# Altium integrated library Infineon_Power_Motor_Driver.IntLib: 100 symbols (part 5 of 7)
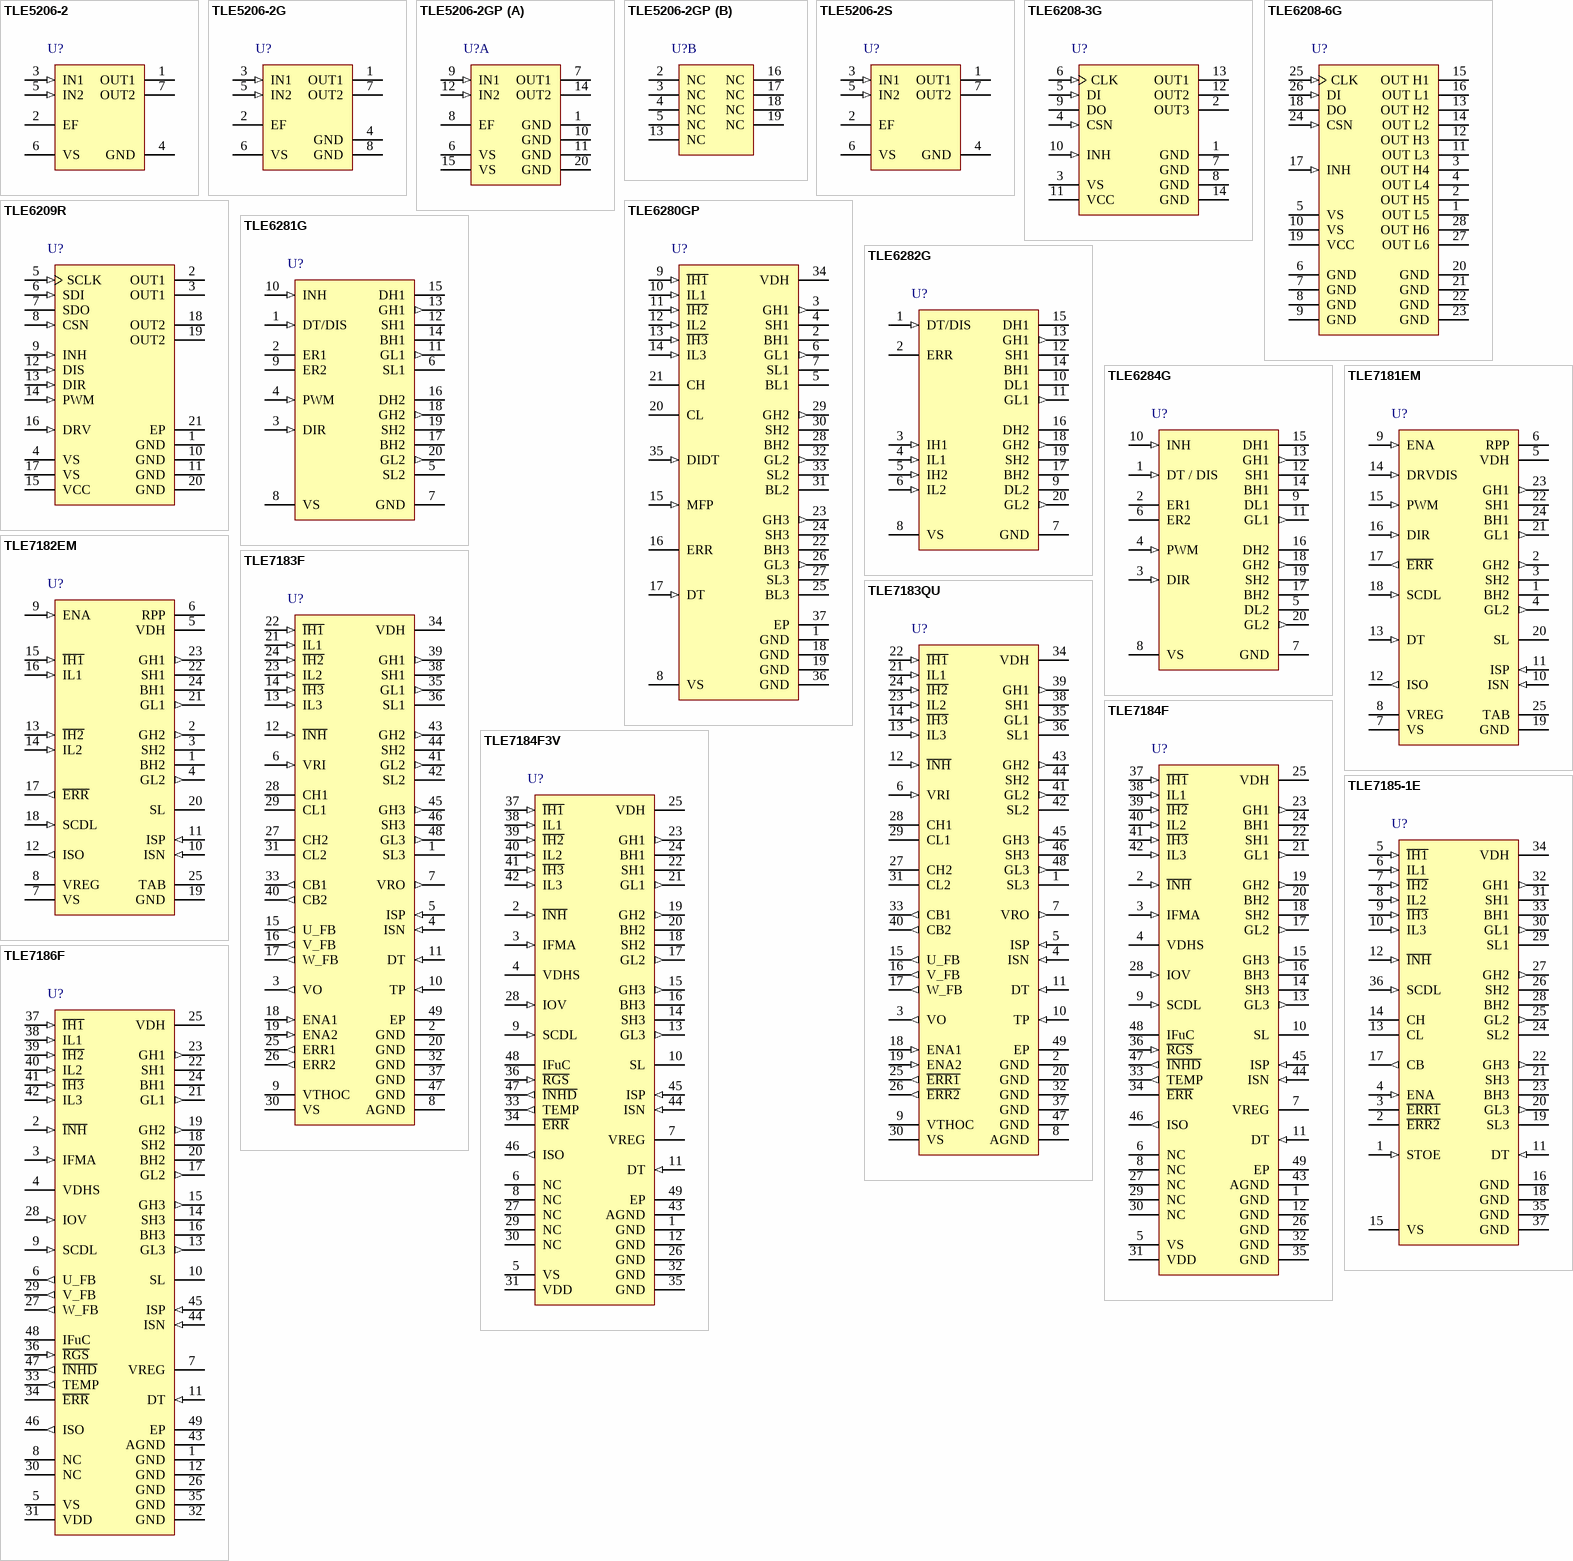
[diagram p8: symbols TLE5206-2 to TLE7186F]

## TLE6284G
designator U?
H-Bridge Driver IC, 7.5 to 60 V, 0.6 mA Iq, -40 to 150 degC, PG-DSO-20-1, Reel, Green; Manufacturer: Infineon; PartNumber: TLE6284G; Adjustable dead time: TRUE; D.C. Range: 0...96/ 100%; Diagnosis: UV, SCD, OT; Iq: 0.6 mA; Integrated OPAMPs for load current measurement: 0; Turn on/off Current: 0.85 / 0.85 A; DatasheetVersion: Rev. 2.4; PackageVersion: Rev. 2.4, 03/2008; PackageReference: PG-DSO-20-1; PackageDescription: 20-Pin Plastic (Green) Dual Small Outline Package, Body 12.8 x 7.6 mm, Pitch 1.27 mm; Supplier 1: Mouser; Supplier Part Number 1: 726-TLE6284G; Supplier 2: Digi-Key; Supplier Part Number 2: TLE6284GTR-ND; Supplier 3: Digi-Key; Supplier Part Number 3: TLE6284GCT-ND; Supplier 4: Digi-Key; Supplier Part Number 4: TLE6284GDKR-ND; Adjustable short circuit detection: TRUE; Green: TRUE; Halogen-free: TRUE; Operating Range: 7.5 to 60 V; Packing: Reel; PWM-DIR Interface: TRUE; Mounting Technology: Surface Mount; Code_JEDEC: J-STD-020; ComponentLink1Description: Manufacturer URL; ComponentLink1URL: http://www.infineon.com/; ComponentLink2Description: Datasheet; ComponentLink2URL: http://www.infineon.com/dgdl/TLE6284G_Rev+2+4.pdf?folderId=db3a3043156fd5730116144c5d101c30&fileId=db3a30431d8a6b3c011d95c820680847&sId=db3a30433e0d3017013e14495be80e67; ComponentLink3Description: Package Specification; ComponentLink3URL: http://www.infineon.com/dgdl/TLE6282G_DS_Rev+2+4.pdf?folderId=db3a3043156fd5730116144c5d101c30&fileId=db3a30431d8a6b3c011d95bcd43d0837&sId=db3a30443e0c87a1013e13f9ac601d73
footprint INF-PG-DSO-20-1_N (SOP, 20-Leads, Body 12.8x7.6mm, Pitch 1.27mm, IPC Medium Density)
footprint INF-PG-DSO-20-1_L (SOP, 20-Leads, Body 12.8x7.6mm, Pitch 1.27mm, IPC High Density)
footprint INF-PG-DSO-20-1_M (SOP, 20-Leads, Body 12.8x7.6mm, Pitch 1.27mm, IPC Low Density)
pins: 1 DT / DIS (in) "a) Set adjustable dead time by external resistor. b) Reset ERx register. c) Disable output stages", 2 ER1 (oc) "Error flag for driver shut down", 3 DIR (in) "Control input for spinning direction of the motor", 4 PWM (in) "Control input for PWM frequency and duty cycle", 5 DL2 (power) "Sense contact for short circuit detection low side 2", 6 ER2 (oc) "Warning flag Temperature / distinguish if short circuit or undervoltage lock out occured", 7 GND (power) "Logic Ground", 8 VS (power) "Voltage supply", 9 DL1 (power) "Sense contact for short circuit detection low side 1", 10 INH (in) "Sets complete device to sleep mode to achieve low quiescent currents", 11 GL1 (out) "Output to gate low side switch 1", 12 SH1 (power) "Connection to source high side switch 1", 13 GH1 (out) "Output to gate high side switch 1", 14 BH1 (power) "Bootstrap supply high side switch 1", 15 DH1 (power) "Sense contact for short circuit detection high side 1", 16 DH2 (power) "Sense contact for short circuit detection high side 2", 17 BH2 (power) "Bootstrap supply high side switch 2", 18 GH2 (out) "Output to gate high side switch 2", 19 SH2 (power) "Connection to source high side switch 2", 20 GL2 (out) "Output to gate low side switch 2"

## TLE7181EM
designator U?
H-Bridge and Dual Half Bridge Driver IC, 7 to 34 V, 20 uA Iq, -40 to 150 degC, PG-SSOP-24-4, Reel, Green; Manufacturer: Infineon; PartNumber: TLE7181EM; Adjustable dead time: 0.13 … 3.6 us; Adjustable short circuit detection: 0.2 … 2 V; D.C. Range: 0…95/ 100%; Diagnosis: UV, OV, SCD, OC, OT; Green: TRUE; Iq: 20 uA; Integrated OPAMPs for load current measurement: 1; Operating Range: 7 to 34 V; PWM-DIR Interface: PWM - DIR; Turn on/off Current: 0.35 / 0.35 A; DatasheetVersion: Rev. 1.1; PackageVersion: Oct-12; PackageReference: PG-SSOP-24-4; PackageDescription: 24-Pin Plastic (Green) Shrink Small Outline Package, 8.65 x 3.9 mm Body, 0.65 mm Pitch; Supplier 1: Mouser; Supplier Part Number 1: 726-TLE7181EM; Supplier 2: Digi-Key; Supplier Part Number 2: TLE7181EM-ND; Halogen-free: TRUE; Packing: Reel; Mounting Technology: Surface Mount; ComponentLink1Description: Manufacturer URL; ComponentLink1URL: http://www.infineon.com/; ComponentLink2Description: Datasheet; ComponentLink2URL: http://www.infineon.com/dgdl/TLE7181EM_DS_Rev1.1.pdf?folderId=db3a3043156fd5730116144c5d101c30&fileId=db3a30432f5008fe012f5440330e3991&location=en.Products.Automotive_ICs.Motor_Drivers__Automotive_.Gate_Driver_ICs_for_external_MOSFETs.H-Bridge_and_Half_Bridge_driver_IC.DATASHEET.TLE7181EM_DS_Rev1.1.pdf; ComponentLink3Description: Package Specification; ComponentLink3URL: http://www.infineon.com/dgdl/TLE8088EM_DS_10.pdf?folderId=db3a30431b3e89eb011bb632994f065b&fileId=db3a30433a047ba0013a446e76be0bbb&location=en.Products.Automotive_ICs.Powertrain_ICs.Power_Interface_Products_for_Motorcycle_and_Small_Engines.DATASHEET.TLE8088EM_DS_10.pdf
footprint INF-PG-SSOP-24-4_N (SOP, 24-Leads, Body 8.65x3.9mm, Pitch 0.65mm, Thermal Pad 6.65x2.9mm, IPC Medium Density)
footprint INF-PG-SSOP-24-4_L (SOP, 24-Leads, Body 8.65x3.9mm, Pitch 0.65mm, Thermal Pad 6.65x2.9mm, IPC High Density)
footprint INF-PG-SSOP-24-4_M (SOP, 24-Leads, Body 8.65x3.9mm, Pitch 0.65mm, Thermal Pad 6.65x2.9mm, IPC Low Density)
pins: 1 BH2 (power) "Pin for + terminal of the bootstrap capacitor of phase 2", 2 GH2 (out) "Output pin for gate of high side MOSFET 2", 3 SH2 (power) "Pin for source connection of high side MOSFET 2", 4 GL2 (out) "Output pin for gate of low side MOSFET 2", 5 VDH (power) "Voltage input common drain high side for short circuit detection", 6 RPP (power) "charge pump output for reverse polarity protection of the motor bridge", 7 VS (power) "Pin for supply voltage", 8 VREG (power) "Output of supply for driver output stage - connect to a capacitor", 9 ENA (in) "Input pin for reset of E\R\R\ registers, active switch off of external MOSFETs and low quiescent current mode, set HIGH to enable operation", 10 ISN (in) "Input for OPAMP + terminal", 11 ISP (in) "Input for OPAMP - terminal", 12 ISO (out) "Output of OPAMP", 13 DT (in) "Input for adjustable dead time function, connect to GND via resistor", 14 DRVDIS (in) "Disable DIR/PWM interface & all output stages switched off", 15 PWM (in) "control input for PWM frequency and duty cycle", 16 DIR (in) "control input for spinning direction of the motor", 17 ~{ERR} (out) "Push pull output stage", 18 SCDL (in) "Input pin for adjustable Short Circuit Detection function", 19 GND (power) "Ground pin", 20 SL (power) "Pin for common source of lowside MOSFETs", 21 GL1 (out) "Output pin for gate of low side MOSFET 1", 22 SH1 (power) "Pin for source connection of high side MOSFET 1", 23 GH1 (out) "Output pin for gate of high side MOSFET 1", 24 BH1 (power) "Pin for + terminal of the bootstrap capacitor of phase 1", 25 TAB (power) "should be connected to GND"

## TLE7182EM
designator U?
H-Bridge and Dual Half Bridge Driver IC, 7 to 34 V, 20 uA Iq, -40 to 150 degC, PG-SSOP-24-4, Reel, Green; Manufacturer: Infineon; PartNumber: TLE7182EM; Adjustable dead time: No, 0.13 us; Adjustable short circuit detection: 0.2 … 2 V; D.C. Range: 0…95/ 100%; Diagnosis: UV, OV, SCD, OC, OT; Green: TRUE; Iq: 20 uA; Integrated OPAMPs for load current measurement: 1; Operating Range: 7 to 34 V; PWM-DIR Interface: 4x input; Turn on/off Current: 0.35 / 0.35 A; DatasheetVersion: Rev. 1.1; PackageVersion: Oct-12; PackageReference: PG-SSOP-24-4; PackageDescription: 24-Pin Plastic (Green) Shrink Small Outline Package, 8.65 x 3.9 mm Body, 0.65 mm Pitch; Supplier 1: Mouser; Supplier Part Number 1: 726-TLE7182EM; Supplier 2: Digi-Key; Supplier Part Number 2: TLE7182EM-ND; Halogen-free: TRUE; Packing: Reel; Mounting Technology: Surface Mount; ComponentLink1Description: Manufacturer URL; ComponentLink1URL: http://www.infineon.com/; ComponentLink2Description: Datasheet; ComponentLink2URL: http://www.infineon.com/dgdl/TLE7182EM_DS_Rev1.1.pdf?folderId=db3a3043156fd5730116144c5d101c30&fileId=db3a30432f5008fe012f5442920c3996&location=en.Products.Automotive_ICs.Motor_Drivers__Automotive_.Gate_Driver_ICs_for_external_MOSFETs.H-Bridge_and_Half_Bridge_driver_IC.DATASHEET.TLE7182EM_DS_Rev1.1.pdf; ComponentLink3Description: Package Specification; ComponentLink3URL: http://www.infineon.com/dgdl/TLE8088EM_DS_10.pdf?folderId=db3a30431b3e89eb011bb632994f065b&fileId=db3a30433a047ba0013a446e76be0bbb&location=en.Products.Automotive_ICs.Powertrain_ICs.Power_Interface_Products_for_Motorcycle_and_Small_Engines.DATASHEET.TLE8088EM_DS_10.pdf
footprint INF-PG-SSOP-24-4_N (SOP, 24-Leads, Body 8.65x3.9mm, Pitch 0.65mm, Thermal Pad 6.65x2.9mm, IPC Medium Density)
footprint INF-PG-SSOP-24-4_L (SOP, 24-Leads, Body 8.65x3.9mm, Pitch 0.65mm, Thermal Pad 6.65x2.9mm, IPC High Density)
footprint INF-PG-SSOP-24-4_M (SOP, 24-Leads, Body 8.65x3.9mm, Pitch 0.65mm, Thermal Pad 6.65x2.9mm, IPC Low Density)
pins: 1 BH2 (power) "Pin for + terminal of the bootstrap capacitor of phase 2", 2 GH2 (out) "Output pin for gate of high side MOSFET 2", 3 SH2 (power) "Pin for source connection of high side MOSFET 2", 4 GL2 (out) "Output pin for gate of low side MOSFET 2", 5 VDH (power) "Voltage input common drain high side for short circuit detection", 6 RPP (power) "charge pump output for reverse polarity protection of the motor bridge", 7 VS (power) "Pin for supply voltage", 8 VREG (power) "Output of supply for driver output stage - connect to a capacitor", 9 ENA (in) "Input pin for reset of E\R\R\ registers, active switch off of external MOSFETs and low quiescent current mode, set HIGH to enable operation", 10 ISN (in) "Input for OPAMP + terminal", 11 ISP (in) "Input for OPAMP - terminal", 12 ISO (out) "Output of OPAMP", 13 ~{IH2} (in) "Input for high side switch 2 (active low)", 14 IL2 (in) "Input for low side switch 2 (active high)", 15 ~{IH1} (in) "Input for high side switch 1 (active low)", 16 IL1 (in) "Input for low side switch 1 (active high)", 17 ~{ERR} (out) "Push pull output stage", 18 SCDL (in) "Input pin for adjustable Short Circuit Detection function", 19 GND (power) "Ground pin", 20 SL (power) "Pin for common source of lowside MOSFETs", 21 GL1 (out) "Output pin for gate of low side MOSFET 1", 22 SH1 (power) "Pin for source connection of high side MOSFET 1", 23 GH1 (out) "Output pin for gate of high side MOSFET 1", 24 BH1 (power) "Pin for + terminal of the bootstrap capacitor of phase 1", 25 TAB (power) "should be connected to GND"

## TLE7183F
designator U?
3-Phase Bridge Driver IC, 5.5 to 28 V, 30 uA Iq, -40 to 150 degC, PG-VQFN-48-14, Reel, Green; Manufacturer: Infineon; PartNumber: TLE7183F; Adjustable dead time: TRUE; Adjustable short circuit detection: 5 fixed options; D.C. Range @ 20kHz: 0...100%; Diagnosis: OT, UV, OV, OC, OCD; Iq: 30 uA; Integrated OPAMPs for load current measurement: 1; Turn on/off Current: 1.5 / 1.5 A; DatasheetVersion: Rev. 2.1; PackageVersion: Rev. 2.1, 06/2007; PackageReference: PG-VQFN-48-14; PackageDescription: 48-Pin Plastic (Green) Very Thin Profile Quad Flat Non Leaded Package, Body 9 x 9 mm, Pitch 0.65 mm; Supplier 1: Mouser; Supplier Part Number 1: 726-TLE7183F; Supplier 2: Digi-Key; Supplier Part Number 2: TLE7183FTR-ND; Supplier 3: Digi-Key; Supplier Part Number 3: TLE7183FCT-ND; Supplier 4: Digi-Key; Supplier Part Number 4: TLE7183FDKR-ND; Green: TRUE; Halogen-free: TRUE; Operating Range: 5.5 to 28 V; Packing: Reel; Phase voltage feedback: TRUE; Mounting Technology: Surface Mount; Code_JEDEC: J-STD-020; ComponentLink1Description: Manufacturer URL; ComponentLink1URL: http://www.infineon.com/; ComponentLink2Description: Datasheet; ComponentLink2URL: http://www.infineon.com/dgdl/TLE7183F_DS_V21.pdf?folderId=db3a304412b407950112b408e8c90004&fileId=db3a304412b407950112b43971646df4&location=en.Products.Automotive_ICs.Motor_Drivers__Automotive_.Gate_Driver_ICs_for_external_MOSFETs.3-Phase_Bridge_Driver_IC_.DATASHEET.TLE7183F_DS_V21.pdf; ComponentLink3Description: Package Specification; ComponentLink3URL: http://www.infineon.com/dgdl/TLE7188F_DS_21.pdf?folderId=db3a3043156fd5730116144c5d101c30&fileId=db3a304318f3fe290118f4acdb840008&sId=db3a30443e0c87a1013e140d16031d8d
footprint INF-PG-VQFN-48-14_N (QFN, 48-Leads, Body 9x9mm, Pitch 0.65mm, Thermal Pad 6.8x6.8mm, IPC Medium Density)
footprint INF-PG-VQFN-48-14_L (QFN, 48-Leads, Body 9x9mm, Pitch 0.65mm, Thermal Pad 6.8x6.8mm, IPC High Density)
footprint INF-PG-VQFN-48-14_M (QFN, 48-Leads, Body 9x9mm, Pitch 0.65mm, Thermal Pad 6.8x6.8mm, IPC Low Density)
pins: 1 SL3 (power) "Connection to source low side switch 3", 2 GND (power) "Logic and power ground", 3 VO (out) "Output of OpAmp for shunt signal amplification", 4 ISN (in) "- Input of OpAmp for shunt signal amplification", 5 ISP (in) "+ Input of OpAmp for shunt signal amplification", 6 VRI (in) "Input of bias reference amplifier", 7 VRO (out) "Output of bias reference amplifier", 8 AGND (power) "Analog ground especially for the current sense OpAmp", 9 VTHOC (power) "Threshold voltage for overcurrent detection", 10 TP (in) "test pin, connect to GND of driver IC", 11 DT (in) "Dead time program pin", 12 ~{INH} (in) "Inhibit pin (active low)", 13 IL3 (in) "Input for low side switch 3 (active high)", 14 ~{IH3} (in) "Input for high side switch 3 (active low)", 15 U_FB (out) "Digital logic representation of the voltage phase U; positive logic", 16 V_FB (out) "Digital logic representation of the voltage phase V; positive logic", 17 W_FB (out) "Digital logic representation of the voltage phase W; positive logic", 18 ENA1 (in) "Enable pin (active high)", 19 ENA2 (in) "Enable pin (active high)", 20 GND (power) "Logic and power ground", 21 IL1 (in) "Input for low side switch 1 (active high)", 22 ~{IH1} (in) "Input for high side switch 1 (active low)", 23 IL2 (in) "Input for low side switch 2 (active high)", 24 ~{IH2} (in) "Input for high side switch 2 (active low)", 25 ERR1 (out) "Error signal 1", 26 ERR2 (out) "Error signal 2", 27 CH2 "+ terminal for pump capacitor of charge pump 2", 28 CH1 "+ terminal for pump capacitor of charge pump 1", 29 CL1 "- terminal for pump capacitor of charge pump 1", 30 VS (power) "Voltage supply", 31 CL2 "- terminal for pump capacitor of charge pump 2", 32 GND (power) "Logic and power ground", 33 CB1 (out) "Buffer capacitor for charge pump 1", 34 VDH (power) "Connection to drain of high side switches for short circuit detection", 35 GL1 (out) "Output to gate low side switch 1", 36 SL1 (power) "Connection to source low side switch 1", 37 GND (power) "Logic and power ground", 38 SH1 (power) "Connection to source high side switch 1", 39 GH1 (out) "Output to gate high side switch 1", 40 CB2 (out) "Buffer capacitor for charge pump 2", 41 GL2 (out) "Output to gate low side switch 2", 42 SL2 (power) "Connection to source low side switch 2", 43 GH2 (out) "Output to gate high side switch 2", 44 SH2 (power) "Connection to source high side switch 2", 45 GH3 (out) "Output to gate high side switch 3", 46 SH3 (power) "Connection to source high side switch 3", 47 GND (power) "Logic and power ground", 48 GL3 (out) "Output to gate low side switch 3", 49 EP (power)

## TLE7183QU
designator U?
3 Phase Driver IC, 5.5 to 28 V, 30 uA Iq, -40 to 150 degC, PG-TQFP-48-8, Reel, Green; Manufacturer: Infineon; PartNumber: TLE7183QU; Adjustable dead time: TRUE; Adjustable short circuit detection: 5 fixed options; D.C. Range @ 20kHz: 0...100%; Diagnosis: OT, UV, OV, OC, OCD; Iq: 30 uA; Integrated OPAMPs for load current measurement: 1; Turn on/off Current: 1.5 / 1.5 A; DatasheetVersion: Rev. 1.0; PackageVersion: Rev. 1.0, 09/2011; PackageReference: PG-TQFP-48-8; PackageDescription: 48-Pin Plastic (Green) Thin Quad Flat Package, Body 7 x 7 mm, Pitch 0.5 mm; Green: TRUE; Halogen-free: TRUE; Operating Range: 5.5 to 28 V; Packing: Reel; Phase voltage feedback: TRUE; Mounting Technology: Surface Mount; Code_JEDEC: J-STD-020; ComponentLink1Description: Manufacturer URL; ComponentLink1URL: http://www.infineon.com/; ComponentLink2Description: Datasheet; ComponentLink2URL: http://www.infineon.com/dgdl/TLE7183QU_DS_10.pdf?folderId=db3a30431ff98815012060aedcd46179&fileId=db3a304334bc9e690134c2a52cac30cd&location=en.Products.Automotive_ICs.Motor_Drivers__Automotive_.Gate_Driver_ICs_for_external_MOSFETs.3-Phase_Bridge_Driver_IC_.DATASHEET.TLE7183QU_DS_10.pdf; ComponentLink3Description: Package Specification; ComponentLink3URL: http://www.infineon.com/dgdl/TLE7183QU_DS_10.pdf?folderId=db3a30431ff98815012060aedcd46179&fileId=db3a304334bc9e690134c2a52cac30cd&sId=db3a30433e0d3017013e126a03060bf1
footprint INF-PG-TQFP-48-8_N (QFP, 48-Leads, Body 7x7 mm, Pitch 0.5 mm, Thermal Pad 5x5 mm, IPC Medium Density)
footprint INF-PG-TQFP-48-8_L (QFP, 48-Leads, Body 7x7 mm, Pitch 0.5 mm, Thermal Pad 5x5 mm, IPC High Density)
footprint INF-PG-TQFP-48-8_M (QFP, 48-Leads, Body 7x7 mm, Pitch 0.5 mm, Thermal Pad 5x5 mm, IPC Low Density)
pins: 1 SL3 (power) "Connection to source low side switch 3", 2 GND (power) "Logic and power ground", 3 VO (out) "Output of OpAmp for shunt signal amplification", 4 ISN (in) "- Input of OpAmp for shunt signal amplification", 5 ISP (in) "+ Input of OpAmp for shunt signal amplification", 6 VRI (in) "Input of bias reference amplifier", 7 VRO (out) "Output of bias reference amplifier", 8 AGND (power) "Analog ground especially for the current sense OpAmp", 9 VTHOC (power) "Threshold voltage for overcurrent detection", 10 TP (in) "test pin, connect to GND of driver IC", 11 DT (in) "Dead time program pin", 12 ~{INH} (in) "Inhibit pin (active low)", 13 IL3 (in) "Input for low side switch 3 (active high)", 14 ~{IH3} (in) "Input for high side switch 3 (active low)", 15 U_FB (out) "Digital logic representation of the voltage phase U; positive logic", 16 V_FB (out) "Digital logic representation of the voltage phase V; positive logic", 17 W_FB (out) "Digital logic representation of the voltage phase W; positive logic", 18 ENA1 (in) "Enable pin (active high)", 19 ENA2 (in) "Enable pin (active high)", 20 GND (power) "Logic and power ground", 21 IL1 (in) "Input for low side switch 1 (active high)", 22 ~{IH1} (in) "Input for high side switch 1 (active low)", 23 IL2 (in) "Input for low side switch 2 (active high)", 24 ~{IH2} (in) "Input for high side switch 2 (active low)", 25 ~{ERR1} (out) "Error signal 1", 26 ~{ERR2} (out) "Error signal 2", 27 CH2 "+ terminal for pump capacitor of charge pump 2", 28 CH1 "+ terminal for pump capacitor of charge pump 1", 29 CL1 "- terminal for pump capacitor of charge pump 1", 30 VS (power) "Voltage supply", 31 CL2 "- terminal for pump capacitor of charge pump 2", 32 GND (power) "Logic and power ground", 33 CB1 (out) "Buffer capacitor for charge pump 1", 34 VDH (power) "Connection to drain of high side switches for short circuit detection", 35 GL1 (out) "Output to gate low side switch 1", 36 SL1 (power) "Connection to source low side switch 1", 37 GND (power) "Logic and power ground", 38 SH1 (power) "Connection to source high side switch 1", 39 GH1 (out) "Output to gate high side switch 1", 40 CB2 (out) "Buffer capacitor for charge pump 2", 41 GL2 (out) "Output to gate low side switch 2", 42 SL2 (power) "Connection to source low side switch 2", 43 GH2 (out) "Output to gate high side switch 2", 44 SH2 (power) "Connection to source high side switch 2", 45 GH3 (out) "Output to gate high side switch 3", 46 SH3 (power) "Connection to source high side switch 3", 47 GND (power) "Logic and power ground", 48 GL3 (out) "Output to gate low side switch 3", 49 EP (power)

## TLE7184F
designator U?
System IC for B6 motor drives, 7 to 32 V, 50 uA Iq, -40 to 150 degC, PG-VQFN-48-14, Reel, Green; Manufacturer: Infineon; PartNumber: TLE7184F; Adjustable dead time: TRUE; D.C. Range @ 20kHz: 0...95%; Diagnosis: UV, OV, OC, SCD, OT, VDD supervision; Iq: 50 uA; Integrated OPAMPs for load current measurement: 1; Operating Range: 7 to 32 V; DatasheetVersion: Rev. 1.0; PackageVersion: Rev. 2.1, 06/2007; PackageReference: PG-VQFN-48-14; PackageDescription: 48-Pin Plastic (Green) Very Thin Profile Quad Flat Non Leaded Package, Body 9 x 9 mm, Pitch 0.65 mm; Supplier 1: Mouser; Supplier Part Number 1: 726-TLE7184F; Supplier 2: Digi-Key; Supplier Part Number 2: TLE7184F-ND; Adjustable short circuit detection: TRUE; Green: TRUE; Halogen-free: TRUE; Packing: Reel; Mounting Technology: Surface Mount; Code_JEDEC: J-STD-020; ComponentLink1Description: Manufacturer URL; ComponentLink1URL: http://www.infineon.com/; ComponentLink2Description: Datasheet; ComponentLink2URL: http://www.infineon.com/dgdl/TLE7184F-FDS-V10.pdf?folderId=db3a3043156fd5730116144c5d101c30&fileId=db3a30431ed1d7b2011ee035c2f23e81&location=en.Products.Automotive_ICs.Motor_Drivers__Automotive_.Gate_Driver_ICs_for_external_MOSFETs.3-Phase_Bridge_Driver_IC_.DATASHEET.TLE7184F-FDS-V10.pdf; ComponentLink3Description: Package Specification; ComponentLink3URL: http://www.infineon.com/dgdl/TLE7188F_DS_21.pdf?folderId=db3a3043156fd5730116144c5d101c30&fileId=db3a304318f3fe290118f4acdb840008&sId=db3a30443e0c87a1013e140d16031d8d
footprint INF-PG-VQFN-48-14_N (QFN, 48-Leads, Body 9x9mm, Pitch 0.65mm, Thermal Pad 6.8x6.8mm, IPC Medium Density)
footprint INF-PG-VQFN-48-14_L (QFN, 48-Leads, Body 9x9mm, Pitch 0.65mm, Thermal Pad 6.8x6.8mm, IPC High Density)
footprint INF-PG-VQFN-48-14_M (QFN, 48-Leads, Body 9x9mm, Pitch 0.65mm, Thermal Pad 6.8x6.8mm, IPC Low Density)
pins: 1 GND (power) "Ground pin", 2 ~{INH} (in) "Input pin wake up the complete system IC", 3 IFMA (in) "Interface to master ECU (used for wake up)", 4 VDHS (power) "Switched output of VDH voltage; switch open in sleep mode", 5 VS (power) "Supply Pin", 6 NC "connect to GND", 7 VREG (power) "Output of supply for driver output stages - connect to capacitor", 8 NC "connect to GND", 9 SCDL (in) "Analog input pin for adjustable Short Circuit Detection function, connect to voltage divider", 10 SL (power) "Pin for common source connection of low side MOSFETs", 11 DT (in) "Input pin for adjustable dead time function, connect to GND via resistor", 12 GND (power) "Ground pin", 13 GL3 (out) "Output pin for gate of low side MOSFET 3", 14 SH3 (power) "Pin for source connection of high side MOSFET 3", 15 GH3 (out) "Output pin for gate of high side MOSFET 3", 16 BH3 (power) "Pin for + terminal of the bootstrap capacitor of phase 3", 17 GL2 (out) "Output pin for gate of low side MOSFET 2", 18 SH2 (power) "Pin for source connection of high side MOSFET 2", 19 GH2 (out) "Output pin for gate of high side MOSFET 2", 20 BH2 (power) "Pin for + terminal of the bootstrap capacitor of phase 2", 21 GL1 (out) "Output pin for gate of low side MOSFET 1", 22 SH1 (power) "Pin for source connection of high side MOSFET 1", 23 GH1 (out) "Output pin for gate of high side MOSFET 1", 24 BH1 (power) "Pin for + terminal of the bootstrap capacitor of phase 1", 25 VDH (power) "Voltage input common drain high side for short circuit detection", 26 GND (power) "Ground pin", 27 NC "connect to GND", 28 IOV (in) "Input pin for Over Voltage detection", 29 NC "connect to GND", 30 NC "connect to GND", 31 VDD (power) "Output of 5V supply for uC - connect to capacitor", 32 GND (power) "Ground pin", 33 TEMP (out) "Output pin for analog temperature signal", 34 ~{ERR} (oc) "Open drain error output", 35 GND (power) "Ground pin", 36 ~{RGS} (in) "Reset and Go-to-Sleep input pin for reset of error registers, set HIGH to avoid to goto-sleep", 37 ~{IH1} (in) "Input for high side switch 1 (active low)", 38 IL1 (in) "Input for low side switch 1 (active high)", 39 ~{IH2} (in) "Input for high side switch 2 (active low)", 40 IL2 (in) "Input for low side switch 2 (active high)", 41 ~{IH3} (in) "Input for high side switch 3 (active low)", 42 IL3 (in) "Input for low side switch 3 (active high)", 43 AGND (power) "Analog GND for Opamp and analog temperature output", 44 ISN (in) "Input for OpAmp - terminal", 45 ISP (in) "Input for OpAmp + terminal", 46 ISO (out) "Output of OpAmp", 47 ~{INHD} (out) "Digital output 5V for INH state (high when INH is high)", 48 IFuC (oc) "Interface to uC", 49 EP (power) "Exposed pad to be connected to GND"

## TLE7184F3V
designator U?
System IC for B6 motor drives, 7 to 32 V, 50 uA Iq, -40 to 150 degC, PG-VQFN-48-14, Reel, Green; Manufacturer: Infineon; PartNumber: TLE7184F3V; Adjustable dead time: TRUE; D.C. Range @ 20kHz: 0...95%; Diagnosis: UV, OV, OC, SCD, OT, VDD supervision; Iq: 50 uA; Integrated OPAMPs for load current measurement: 1; Operating Range: 7 to 32 V; DatasheetVersion: Rev. 1.1; PackageVersion: Rev. 2.1, 06/2007; PackageReference: PG-VQFN-48-14; PackageDescription: 48-Pin Plastic (Green) Very Thin Profile Quad Flat Non Leaded Package, Body 9 x 9 mm, Pitch 0.65 mm; Supplier 1: Mouser; Supplier Part Number 1: 726-TLE7184F3V; Adjustable short circuit detection: TRUE; Green: TRUE; Halogen-free: TRUE; Packing: Reel; Mounting Technology: Surface Mount; Code_JEDEC: J-STD-020; ComponentLink1Description: Manufacturer URL; ComponentLink1URL: http://www.infineon.com/; ComponentLink2Description: Datasheet; ComponentLink2URL: http://www.infineon.com/dgdl/TLE7184F-3V-FDS-V1.1--2011-08-03.pdf?folderId=db3a304412b407950112b408e8c90004&fileId=db3a3043353cc43601353d3eb3c0006f&location=en.Products.Automotive_ICs.Motor_Drivers__Automotive_.Gate_Driver_ICs_for_external_MOSFETs.3-Phase_Bridge_Driver_IC_.DATASHEET.TLE7184F-3V-FDS-V1.1--2011-08-03.pdf; ComponentLink3Description: Package Specification; ComponentLink3URL: http://www.infineon.com/dgdl/TLE7188F_DS_21.pdf?folderId=db3a3043156fd5730116144c5d101c30&fileId=db3a304318f3fe290118f4acdb840008&sId=db3a30443e0c87a1013e140d16031d8d
footprint INF-PG-VQFN-48-14_N (QFN, 48-Leads, Body 9x9mm, Pitch 0.65mm, Thermal Pad 6.8x6.8mm, IPC Medium Density)
footprint INF-PG-VQFN-48-14_L (QFN, 48-Leads, Body 9x9mm, Pitch 0.65mm, Thermal Pad 6.8x6.8mm, IPC High Density)
footprint INF-PG-VQFN-48-14_M (QFN, 48-Leads, Body 9x9mm, Pitch 0.65mm, Thermal Pad 6.8x6.8mm, IPC Low Density)
pins: 1 GND (power) "Ground pin", 2 ~{INH} (in) "Input pin wake up the complete system IC", 3 IFMA (in) "Interface to master ECU (used for wake up)", 4 VDHS (power) "Switched output of VDH voltage; switch open in sleep mode", 5 VS (power) "Supply Pin", 6 NC "connect to GND", 7 VREG (power) "Output of supply for driver output stages - connect to capacitor", 8 NC "connect to GND", 9 SCDL (in) "Analog input pin for adjustable Short Circuit Detection function, connect to voltage divider", 10 SL (power) "Pin for common source connection of low side MOSFETs", 11 DT (in) "Input pin for adjustable dead time function, connect to GND via resistor", 12 GND (power) "Ground pin", 13 GL3 (out) "Output pin for gate of low side MOSFET 3", 14 SH3 (power) "Pin for source connection of high side MOSFET 3", 15 GH3 (out) "Output pin for gate of high side MOSFET 3", 16 BH3 (power) "Pin for + terminal of the bootstrap capacitor of phase 3", 17 GL2 (out) "Output pin for gate of low side MOSFET 2", 18 SH2 (power) "Pin for source connection of high side MOSFET 2", 19 GH2 (out) "Output pin for gate of high side MOSFET 2", 20 BH2 (power) "Pin for + terminal of the bootstrap capacitor of phase 2", 21 GL1 (out) "Output pin for gate of low side MOSFET 1", 22 SH1 (power) "Pin for source connection of high side MOSFET 1", 23 GH1 (out) "Output pin for gate of high side MOSFET 1", 24 BH1 (power) "Pin for + terminal of the bootstrap capacitor of phase 1", 25 VDH (power) "Voltage input common drain high side for short circuit detection", 26 GND (power) "Ground pin", 27 NC "connect to GND", 28 IOV (in) "Input pin for Over Voltage detection", 29 NC "connect to GND", 30 NC "connect to GND", 31 VDD (power) "Output of 5V supply for µC - connect to capacitor", 32 GND (power) "Ground pin", 33 TEMP (out) "Output pin for analog temperature signal", 34 ~{ERR} (oc) "Open drain error output", 35 GND (power) "Ground pin", 36 ~{RGS} (in) "Reset and Go-to-Sleep input pin for reset of error registers, set HIGH to avoid to goto-sleep", 37 ~{IH1} (in) "Input for high side switch 1 (active low)", 38 IL1 (in) "Input for low side switch 1 (active high)", 39 ~{IH2} (in) "Input for high side switch 2 (active low)", 40 IL2 (in) "Input for low side switch 2 (active high)", 41 ~{IH3} (in) "Input for high side switch 3 (active low)", 42 IL3 (in) "Input for low side switch 3 (active high)", 43 AGND (power) "Analog GND for Opamp and analog temperature output", 44 ISN (in) "Input for OpAmp - terminal", 45 ISP (in) "Input for OpAmp + terminal", 46 ISO (out) "Output of OpAmp", 47 ~{INHD} (out) "Digital output 5V for INH state (high when INH is high)", 48 IFuC (oc) "Interface to µC", 49 EP (power) "Exposed pad to be connected to GND"

## TLE7185-1E
designator U?
3-Phase Bridge Driver IC, 5.5 to 32 V, 22 uA Iq, -40 to 150 degC, PG-DSO-36-38-5200X4600TP, Reel, Green; Manufacturer: Infineon; PartNumber: TLE7185-1E; Adjustable dead time: TRUE; D.C. Range @ 20kHz: 0...95%; Diagnosis: UV, OV, SCD, OT; Iq: 22 uA; Integrated OPAMPs for load current measurement: 0; DatasheetVersion: Rev. 2.4; PackageVersion: Apr-09; PackageReference: PG-DSO-36-38-5200X4600TP; PackageDescription: 36-Pin Plastic (Green) Dual Small Outline Package, 12.7 x 7.5 mm Body, 0.65 mm Pitch; Supplier 1: Mouser; Supplier Part Number 1: 726-TLE7185-1E; Supplier 2: Digi-Key; Supplier Part Number 2: TLE7185-1E-ND; Adjustable short circuit detection: TRUE; Green: TRUE; Halogen-free: TRUE; Operating Range: 5.5 to 32 V; Packing: Reel; Mounting Technology: Surface Mount; ComponentLink1Description: Manufacturer URL; ComponentLink1URL: http://www.infineon.com/; ComponentLink2Description: Datasheet; ComponentLink2URL: http://www.infineon.com/dgdl/TLE7185E_DS24.pdf?folderId=db3a3043156fd5730116144c5d101c30&fileId=db3a30432239cccd0122e541d0473c55&location=en.Products.Automotive_ICs.Motor_Drivers__Automotive_.Gate_Driver_ICs_for_external_MOSFETs.3-Phase_Bridge_Driver_IC_.DATASHEET.TLE7185E_DS24.pdf; ComponentLink3Description: Package Specification; ComponentLink3URL: http://www.infineon.com/dgdl/PG-DSO-36-24%2C-38%2C-41%2C-42%2C-50-Package_Overview.pdf?folderId=db3a304316f66ee801179ce26c705f4a&fileId=db3a304319c6f18c011a3ac6ea200605
footprint INF-PG-DSO-36-38-5200X4600TP_N (SOP, 36-Leads, Body 12.7x7.5 mm, Pitch 0.65 mm, Thermal Pad 5.2x4.6 mm , IPC Medium Density)
footprint INF-PG-DSO-36-38-5200X4600TP_L (SOP, 36-Leads, Body 12.7x7.5 mm, Pitch 0.65 mm, Thermal Pad 5.2x4.6 mm, IPC High Density)
footprint INF-PG-DSO-36-38-5200X4600TP_M (SOP, 36-Leads, Body 12.7x7.5 mm, Pitch 0.65 mm, Thermal Pad 5.2x4.6 mm, IPC Low Density)
pins: 1 STOE (in) "Input pin to enable shoot through option in all 3 half bridges (active high)", 2 ~{ERR2} (oc) "Open drain error output 2", 3 ~{ERR1} (oc) "Open drain error output 1", 4 ENA (in) "Input pin for reset of E\R\R\x\ registers + active switch off of external MOSFETs, set HIGH to enable operation", 5 ~{IH1} (in) "Input for high side switch 1 (active low)", 6 IL1 (in) "Input for low side switch 1 (active high)", 7 ~{IH2} (in) "Input for high side switch 2 (active low)", 8 IL2 (in) "Input for low side switch 2 (active high)", 9 ~{IH3} (in) "Input for high side switch 3 (active low)", 10 IL3 (in) "Input for low side switch 3 (active high)", 11 DT (in) "Input pin for adjustable dead time function, connect to GND via resistor", 12 ~{INH} (in) "Input pin to activate (high) / deactivate (low) the complete Driver IC", 13 CL "Charge pump capacitor - terminal", 14 CH "Charge pump capacitor + terminal", 15 VS (power) "Supply Pin", 16 GND (power), 17 CB (out) "Output of charge pump; connect to buffer capacitor", 18 GND (power), 19 SL3 (power) "Pin for source connection of high side MOSFET 3", 20 GL3 (out) "Output pin for gate of low side MOSFET 3", 21 SH3 (power) "Pin for source connection of high side MOSFET 3", 22 GH3 (out) "Output pin for gate of high side MOSFET 3", 23 BH3 (power) "Pin for + terminal of the bootstrap capacitor of phase 3", 24 SL2 (power) "Pin for source connection of high side MOSFET 2", 25 GL2 (out) "Output pin for gate of low side MOSFET 2", 26 SH2 (power) "Pin for source connection of high side MOSFET 2", 27 GH2 (out) "Output pin for gate of high side MOSFET 2", 28 BH2 (power) "Pin for + terminal of the bootstrap capacitor of phase 2", 29 SL1 (power) "Pin for source connection of high side MOSFET 1", 30 GL1 (out) "Output pin for gate of low side MOSFET 1", 31 SH1 (power) "Pin for source connection of high side MOSFET 1", 32 GH1 (out) "Output pin for gate of high side MOSFET 1", 33 BH1 (power) "Pin for + terminal of the bootstrap capacitor of phase 1", 34 VDH (power) "Voltage input common drain high side for short circuit detection", 35 GND (power), 36 SCDL (in) "Input pin for adjustable Short Circuit Detection function, connect to GND via resistor", 37 GND (power) "Should be connected to GND"

## TLE7186F
designator U?
System IC for B6 motor drives, 7 to 32 V, 50 uA Iq, -40 to 150 degC, PG-VQFN-48-14, Reel, Green; Manufacturer: Infineon; PartNumber: TLE7186F; Adjustable dead time: TRUE; D.C. Range @ 20kHz: 0...95%; Diagnosis: UV, OV, OC, SCD, OT, VDD supervision; Iq: 50 uA; Integrated OPAMPs for load current measurement: 1; Operating Range: 7 to 32 V; DatasheetVersion: Rev. 1.1; PackageVersion: Rev. 2.1, 06/2007; PackageReference: PG-VQFN-48-14; PackageDescription: 48-Pin Plastic (Green) Very Thin Profile Quad Flat Non Leaded Package, Body 9 x 9 mm, Pitch 0.65 mm; Adjustable short circuit detection: TRUE; Green: TRUE; Halogen-free: TRUE; Packing: Reel; Phase voltage feedback: TRUE; Mounting Technology: Surface Mount; Code_JEDEC: J-STD-020; ComponentLink1Description: Manufacturer URL; ComponentLink1URL: http://www.infineon.com/; ComponentLink2Description: Datasheet; ComponentLink2URL: http://www.infineon.com/dgdl/TLE7186F-FDS-V11-2011-04-08.pdf?folderId=db3a3043156fd5730116144c5d101c30&fileId=db3a30433d68e984013d69114bac014e&location=en.Products.Automotive_ICs.Motor_Drivers__Automotive_.Gate_Driver_ICs_for_external_MOSFETs.3-Phase_Bridge_Driver_IC_.DATASHEET.TLE7186F-FDS-V11-2011-04-08.pdf; ComponentLink3Description: Package Specification; ComponentLink3URL: http://www.infineon.com/dgdl/TLE7188F_DS_21.pdf?folderId=db3a3043156fd5730116144c5d101c30&fileId=db3a304318f3fe290118f4acdb840008&sId=db3a30443e0c87a1013e140d16031d8d
footprint INF-PG-VQFN-48-14_N (QFN, 48-Leads, Body 9x9mm, Pitch 0.65mm, Thermal Pad 6.8x6.8mm, IPC Medium Density)
footprint INF-PG-VQFN-48-14_L (QFN, 48-Leads, Body 9x9mm, Pitch 0.65mm, Thermal Pad 6.8x6.8mm, IPC High Density)
footprint INF-PG-VQFN-48-14_M (QFN, 48-Leads, Body 9x9mm, Pitch 0.65mm, Thermal Pad 6.8x6.8mm, IPC Low Density)
pins: 1 GND (power) "Ground pin", 2 ~{INH} (in) "Input pin wake up the complete system IC", 3 IFMA (in) "Interface to master ECU (used for wake up)", 4 VDHS (power) "Switched output of VDH voltage; switch open in sleep mode", 5 VS (power) "Supply Pin", 6 U_FB (out) "Digital phase voltage feedback output of SH1", 7 VREG (power) "Output of supply for driver output stages - connect to capacitor", 8 NC "connect to GND", 9 SCDL (in) "Analog input pin for adjustable Short Circuit Detection function, connect to voltage divider", 10 SL (power) "Pin for common source connection of low side MOSFETs", 11 DT (in) "Input pin for adjustable dead time function, connect to GND via resistor", 12 GND (power) "Ground pin", 13 GL3 (out) "Output pin for gate of low side MOSFET 3", 14 SH3 (power) "Pin for source connection of high side MOSFET 3", 15 GH3 (out) "Output pin for gate of high side MOSFET 3", 16 BH3 (power) "Pin for + terminal of the bootstrap capacitor of phase 3", 17 GL2 (out) "Output pin for gate of low side MOSFET 2", 18 SH2 (power) "Pin for source connection of high side MOSFET 2", 19 GH2 (out) "Output pin for gate of high side MOSFET 2", 20 BH2 (power) "Pin for + terminal of the bootstrap capacitor of phase 2", 21 GL1 (out) "Output pin for gate of low side MOSFET 1", 22 SH1 (power) "Pin for source connection of high side MOSFET 1", 23 GH1 (out) "Output pin for gate of high side MOSFET 1", 24 BH1 (power) "Pin for + terminal of the bootstrap capacitor of phase 1", 25 VDH (power) "Voltage input common drain high side for short circuit detection", 26 GND (power) "Ground pin", 27 W_FB (out) "Digital phase voltage feedback output of SH3", 28 IOV (in) "Input pin for Over Voltage detection.", 29 V_FB (out) "Digital phase voltage feedback output of SH2", 30 NC "connect to GND", 31 VDD (power) "Output of 5V supply for uC - connect to capacitor", 32 GND (power) "Ground pin", 33 TEMP (out) "Output pin for analog temperature signal", 34 ~{ERR} (oc) "Open drain error output", 35 GND (power) "Ground pin", 36 ~{RGS} (in) "Reset and Go-to-Sleep input pin for reset of error registers, set HIGH to avoid to goto-sleep", 37 ~{IH1} (in) "Input for high side switch 1 (active low)", 38 IL1 (in) "Input for low side switch 1 (active high)", 39 ~{IH2} (in) "Input for high side switch 2 (active low)", 40 IL2 (in) "Input for low side switch 2 (active high)", 41 ~{IH3} (in) "Input for high side switch 3(active low)", 42 IL3 (in) "Input for low side switch 3(active high)", 43 AGND (power) "Analog GND for Opamp and analog temperature output", 44 ISN (in) "Input for OpAmp - terminal", 45 ISP (in) "Input for OpAmp + terminal", 46 ISO (out) "Output of OpAmp", 47 ~{INHD} (out) "Digital output 5V for I\N\H\ state (high when I\N\H\ is high)", 48 IFuC (oc) "Interface to uC", 49 EP (power) "Exposed pad to be connected to GND"

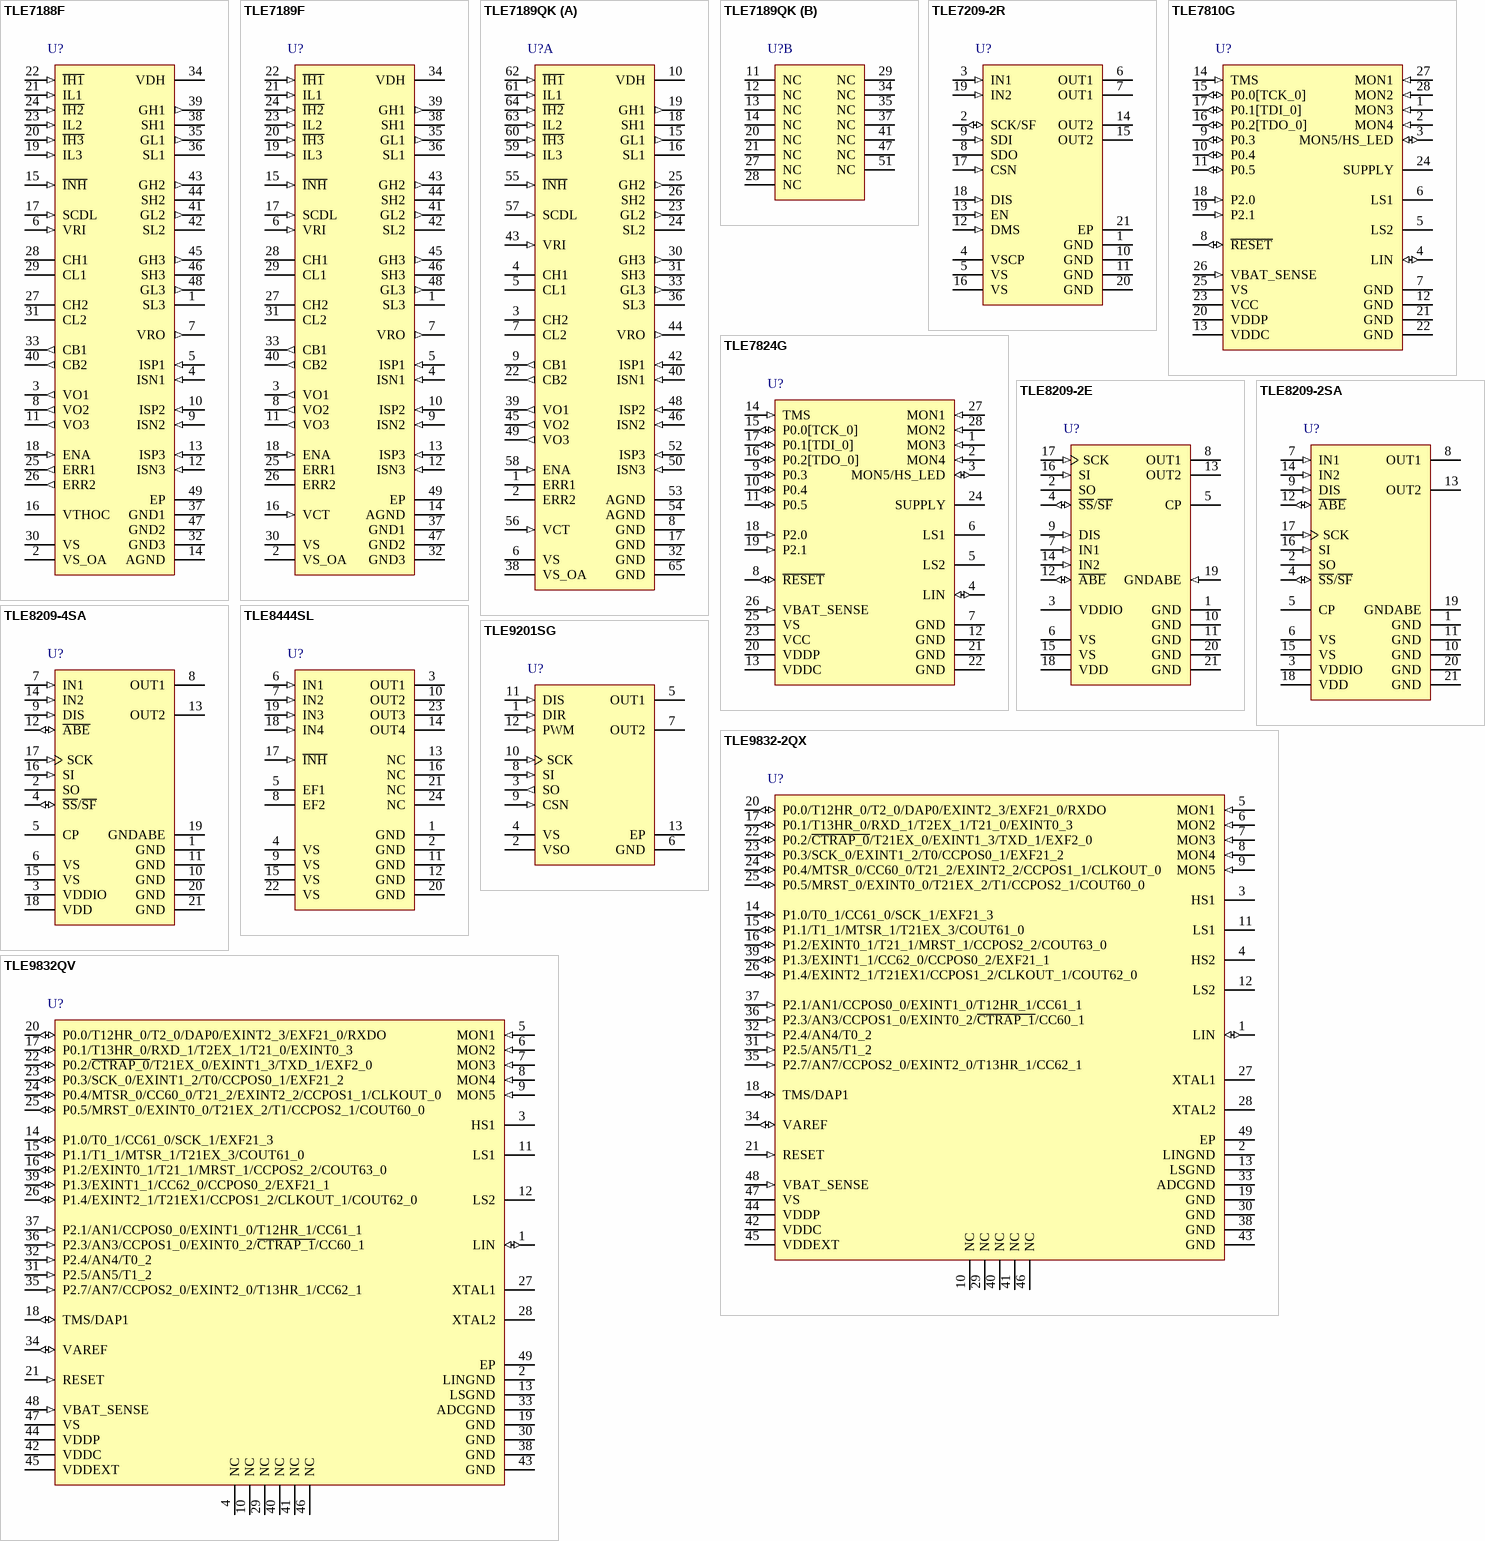
[diagram p3: symbols TLE7188F to TLE9832QV]

## TLE7188F
designator U?
3-Phase Bridge Driver IC, 5.5 to 28 V, 30 uA Iq, -40 to 150 degC, PG-VQFN-48-14, Reel, Green; Manufacturer: Infineon; PartNumber: TLE7188F; Adjustable dead time: FALSE; Adjustable short circuit detection: TRUE; D.C. Range @ 20kHz: 0...100%; Diagnosis: UV, OV, OC, SCD, OT; Iq: 30 uA; Integrated OPAMPs for load current measurement: 3; Turn on/off Current: 1.5 / 1.5 A; DatasheetVersion: Rev. 2.1; PackageVersion: Rev. 2.1, 06/2007; PackageReference: PG-VQFN-48-14; PackageDescription: 48-Pin Plastic (Green) Very Thin Profile Quad Flat Non Leaded Package, Body 9 x 9 mm, Pitch 0.65 mm; Supplier 1: Mouser; Supplier Part Number 1: 726-TLE7188F; Supplier 2: Digi-Key; Supplier Part Number 2: TLE7188F-ND; Green: TRUE; Halogen-free: TRUE; Operating Range: 5.5 to 28 V; Packing: Reel; Mounting Technology: Surface Mount; Code_JEDEC: J-STD-020; ComponentLink1Description: Manufacturer URL; ComponentLink1URL: http://www.infineon.com/; ComponentLink2Description: Datasheet; ComponentLink2URL: http://www.infineon.com/dgdl/TLE7188F_DS_21.pdf?folderId=db3a3043156fd5730116144c5d101c30&fileId=db3a304318f3fe290118f4acdb840008&location=en.Products.Automotive_ICs.Motor_Drivers__Automotive_.Gate_Driver_ICs_for_external_MOSFETs.3-Phase_Bridge_Driver_IC_.DATASHEET.TLE7188F_DS_21.pdf; ComponentLink3Description: Package Specification; ComponentLink3URL: http://www.infineon.com/dgdl/TLE7188F_DS_21.pdf?folderId=db3a3043156fd5730116144c5d101c30&fileId=db3a304318f3fe290118f4acdb840008&sId=db3a30443e0c87a1013e140d16031d8d
footprint INF-PG-VQFN-48-14_N (QFN, 48-Leads, Body 9x9mm, Pitch 0.65mm, Thermal Pad 6.8x6.8mm, IPC Medium Density)
footprint INF-PG-VQFN-48-14_L (QFN, 48-Leads, Body 9x9mm, Pitch 0.65mm, Thermal Pad 6.8x6.8mm, IPC High Density)
footprint INF-PG-VQFN-48-14_M (QFN, 48-Leads, Body 9x9mm, Pitch 0.65mm, Thermal Pad 6.8x6.8mm, IPC Low Density)
pins: 1 SL3 (power) "Connection to source low side switch 3", 2 VS_OA (power) "Voltage supply I-DC Link OpAmps and voltage reference buffer", 3 VO1 (out) "Output of OpAmp 1 for shunt signal ampli?cation", 4 ISN1 (in) "- Input of OpAmp 1 for shunt signal ampli?cation", 5 ISP1 (in) "+ Input of OpAmp 1 for shunt signal ampli?cation", 6 VRI (in) "Input of bias reference ampli?er", 7 VRO (out) "Output of bias reference ampli?er", 8 VO2 (out) "Output of OpAmp 2 for shunt signal ampli?cation", 9 ISN2 (in) "- Input of OpAmp 2 for shunt signal ampli?cation", 10 ISP2 (in) "+ Input of OpAmp 2 for shunt signal ampli?cation", 11 VO3 (out) "Output of OpAmp 3 for shunt signal ampli?cation", 12 ISN3 (in) "- Input of OpAmp 3 for shunt signal ampli?cation", 13 ISP3 (in) "+ Input of OpAmp 3 for shunt signal ampli?cation", 14 AGND (power) "Analog ground especially for the current sense OpAmps", 15 ~{INH} (in) "Inhibit pin (active low)", 16 VTHOC (power) "Threshold voltage for overcurrent detection", 17 SCDL (in) "Input pin to adjust short circuit detection level", 18 ENA (in) "Enable pin (active high)", 19 IL3 (in) "Input for low side switch 3 (active high)", 20 ~{IH3} (in) "Input for high side switch 3 (active low)", 21 IL1 (in) "Input for low side switch 1 (active high)", 22 ~{IH1} (in) "Input for high side switch 1 (active low)", 23 IL2 (in) "Input for low side switch 2 (active high)", 24 ~{IH2} (in) "Input for high side switch 2 (active low)", 25 ERR1 (out) "Error signal 1", 26 ERR2 (out) "Error signal 2", 27 CH2 "+ terminal for pump capacitor of charge pump 2", 28 CH1 "+ terminal for pump capacitor of charge pump 1", 29 CL1 "- terminal for pump capacitor of charge pump 1", 30 VS (power) "Voltage supply", 31 CL2 "- tenninal for pump capacitor of charge pump 2", 32 GND3 (power) "Logic and power ground", 33 CB1 (out) "Buffer capacitor for charge pump 1", 34 VDH (power) "Connection to drain of high side switches for short circuit detection", 35 GL1 (out) "Output to gate low side switch 1", 36 SL1 (power) "Connection to source low side switch 1", 37 GND1 (power) "Logic and power ground", 38 SH1 (power) "Connection to source high side switch 1", 39 GH1 (out) "Output to gate high side switch 1", 40 CB2 (out) "Buffer capacitor for charge pump 2", 41 GL2 (out) "Output to gate low side switch 2", 42 SL2 (power) "Connection to source low side switch 2", 43 GH2 (out) "Output to gate high side switch 2", 44 SH2 (power) "Connection to source high side switch 2", 45 GH3 (out) "Output to gate high side switch 3", 46 SH3 (power) "Connection to source high side switch 3", 47 GND2 (power) "Logic and power ground", 48 GL3 (out) "Output to gate low side switch 3", 49 EP (power)

## TLE7189F
designator U?
3-Phase Bridge Driver IC, 5.5 to 28 V, 30 uA Iq, -40 to 150 degC, PG-VQFN-48-14, Reel, Green; Manufacturer: Infineon; PartNumber: TLE7189F; Adjustable dead time: FALSE; Adjustable short circuit detection: TRUE; D.C. Range @ 20kHz: 0...100%; Diagnosis: UV, OV, SCD, OT, VDD supervision; Iq: 30 uA; Integrated OPAMPs for load current measurement: 3; Turn on/off Current: 1.5 / 1.5 A; DatasheetVersion: Rev. 2.1; PackageVersion: Rev. 2.1, 06/2007; PackageReference: PG-VQFN-48-14; PackageDescription: 48-Pin Plastic (Green) Very Thin Profile Quad Flat Non Leaded Package, Body 9 x 9 mm, Pitch 0.65 mm; Supplier 1: Mouser; Supplier Part Number 1: 726-TLE7189F; Supplier 2: Digi-Key; Supplier Part Number 2: TLE7189FINTR-ND; Supplier 3: Digi-Key; Supplier Part Number 3: TLE7189FINCT-ND; Supplier 4: Digi-Key; Supplier Part Number 4: TLE7189FINDKR-ND; Green: TRUE; Halogen-free: TRUE; Operating Range: 5.5 to 28 V; Packing: Reel; Mounting Technology: Surface Mount; Code_JEDEC: J-STD-020; ComponentLink1Description: Manufacturer URL; ComponentLink1URL: http://www.infineon.com/; ComponentLink2Description: Datasheet; ComponentLink2URL: http://www.infineon.com/dgdl/TLE7189F-FDS-V21.pdf?folderId=db3a3043156fd5730116144c5d101c30&fileId=db3a304318f3fe290118f4afdd4f000d&location=en.Products.Automotive_ICs.Motor_Drivers__Automotive_.Gate_Driver_ICs_for_external_MOSFETs.3-Phase_Bridge_Driver_IC_.DATASHEET.TLE7189F-FDS-V21.pdf; ComponentLink3Description: Package Specification; ComponentLink3URL: http://www.infineon.com/dgdl/TLE7188F_DS_21.pdf?folderId=db3a3043156fd5730116144c5d101c30&fileId=db3a304318f3fe290118f4acdb840008&sId=db3a30443e0c87a1013e140d16031d8d
footprint INF-PG-VQFN-48-14_N (QFN, 48-Leads, Body 9x9mm, Pitch 0.65mm, Thermal Pad 6.8x6.8mm, IPC Medium Density)
footprint INF-PG-VQFN-48-14_L (QFN, 48-Leads, Body 9x9mm, Pitch 0.65mm, Thermal Pad 6.8x6.8mm, IPC High Density)
footprint INF-PG-VQFN-48-14_M (QFN, 48-Leads, Body 9x9mm, Pitch 0.65mm, Thermal Pad 6.8x6.8mm, IPC Low Density)
pins: 1 SL3 (power) "Connection to source low side switch 3", 2 VS_OA (power) "Voltage supply I-DC Link OpAmps and voltage reference buffer / input for VCC check", 3 VO1 (out) "Output of OpAmp 1 for shunt signal amplification", 4 ISN1 (in) "- Input of OpAmp 1 for shunt signal amplification", 5 ISP1 (in) "+ Input of OpAmp 1 for shunt signal amplification", 6 VRI (in) "Input of bias reference amplifier", 7 VRO (out) "Output of bias reference amplifier", 8 VO2 (out) "Output of OpAmp 2 for shunt signal amplification", 9 ISN2 (in) "- Input of OpAmp 2 for shunt signal amplification", 10 ISP2 (in) "+ Input of OpAmp 2 for shunt signal amplification", 11 VO3 (out) "Output of OpAmp 3 for shunt signal amplification", 12 ISN3 (in) "- Input of OpAmp 3 for shunt signal amplification", 13 ISP3 (in) "+ Input of OpAmp 3 for shunt signal amplification", 14 AGND (power) "Analog ground especially for the current sense OpAmps", 15 ~{INH} (in) "Inhibit pin (active low)", 16 VCT (in) "Input pin for VCC check test", 17 SCDL (in) "Input pin to adjust short circuit detection level", 18 ENA (in) "Enable pin (active high)", 19 IL3 (in) "Input for low side switch 3 (active high)", 20 ~{IH3} (in) "Input for high side switch 3 (active low)", 21 IL1 (in) "Input for low side switch 1 (active high)", 22 ~{IH1} (in) "Input for high side switch 1 (active low)", 23 IL2 (in) "Input for low side switch 2 (active high)", 24 ~{IH2} (in) "Input for high side switch 2 (active low)", 25 ERR1 (hiz) "Error signal 1", 26 ERR2 (hiz) "Error signal 2", 27 CH2 "+ terminal for pump capacitor of charge pump 2", 28 CH1 "+ terminal for pump capacitor of charge pump 1", 29 CL1 "- terminal for pump capacitor of charge pump 1", 30 VS (power) "Voltage supply", 31 CL2 "- terminal for pump capacitor of charge pump 2", 32 GND3 (power) "Logic and power ground", 33 CB1 (out) "Buffer capacitor for charge pump 1", 34 VDH (power) "Connection to drain of high side switches for short circuit detection", 35 GL1 (out) "Output to gate low side switch 1", 36 SL1 (power) "Connection to source low side switch 1", 37 GND1 (power) "Logic and power ground", 38 SH1 (power) "Connection to source high side switch 1", 39 GH1 (out) "Output to gate high side switch 1", 40 CB2 (out) "Buffer capacitor for charge pump 2", 41 GL2 (out) "Output to gate low side switch 2", 42 SL2 (power) "Connection to source low side switch 2", 43 GH2 (out) "Output to gate high side switch 2", 44 SH2 (power) "Connection to source high side switch 2", 45 GH3 (out) "Output to gate high side switch 3", 46 SH3 (power) "Connection to source high side switch 3", 47 GND2 (power) "Logic and power ground", 48 GL3 (out) "Output to gate low side switch 3", 49 EP (power) "the exposed pad on the backside of the VQFN is recommended to connect to GND"